# EAGLE library part AD8015 (library analog-devices)
Wideband/Differential Output Transimpedance Amplifier Source: http://www.analog.com/static/imported-files/data_sheets/AD8015.pdf
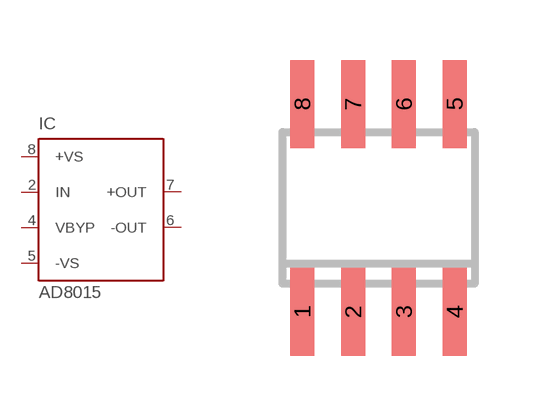
[diagram p20: symbol with the pads of SO8; footprint SO8]

Designator prefix IC

## AD8015 (MPN: AD8015ARZ; OC_FARNELL: 1464812; OC_NEWARK: 19M8870)  [SO8]
2  IN  in
4  VBYP  in
5  -VS  in
6  -OUT  out
7  +OUT  out
8  +VS  in

## Footprint SO8 (pad centres in mm)
SMALL OUTLINE INTEGRATED CIRCUIT SOP-8L Source: http://www.diodes.com/datasheets/ds31262.pdf
smd 0.6 x 2.2: 1 -1.905,-2.6; 2 -0.635,-2.6; 3 0.635,-2.6; 4 1.905,-2.6; 5 1.905,2.6; 6 0.635,2.6; 7 -0.635,2.6; 8 -1.905,2.6